# EAGLE library part MMA7660FC_DEVICE (library boxiangf)
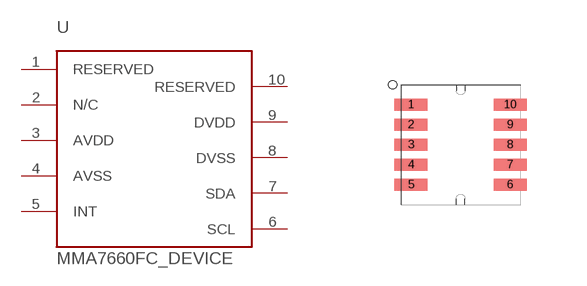
[diagram p0: symbol with the pads of MMA7660FC_FOOTPRINT; footprint MMA7660FC_FOOTPRINT]

Designator prefix -

## MMA7660FC_DEVICE  [MMA7660FC_FOOTPRINT]
1  RESERVED  in
2  N/C  in
3  AVDD  in
4  AVSS  in
5  INT  out
6  SCL  in
7  SDA  oc
8  DVSS  in
9  DVDD  in
10  RESERVED  in

## Footprint MMA7660FC_FOOTPRINT (pad centres in mm)
smd 0.825 x 0.3: 1 -1.24,1; 2 -1.24,0.5; 3 -1.24,0; 4 -1.24,-0.5; 5 -1.24,-1; 6 1.24,-1; 7 1.24,-0.5; 8 1.24,0; 9 1.24,0.5; 10 1.24,1